# EAGLE library part 74HCT04PW-Q100,118 (library SamacSys_Parts)
74HC(T)04-Q100 - Hex inverter@en-us Source: Datasheet <https://assets.nexperia.com/documents/data-sheet/74HC_HCT04_Q100.pdf>
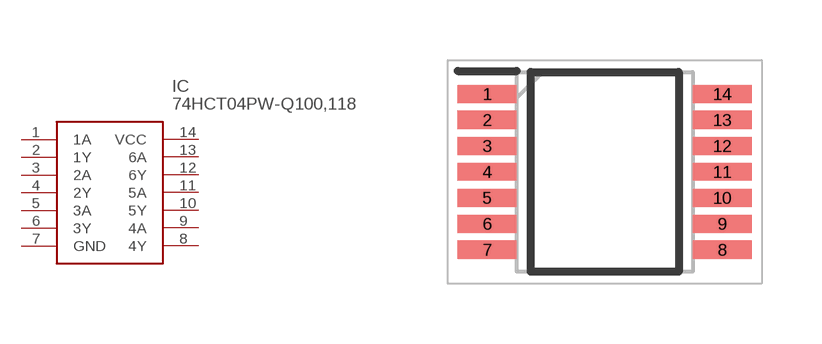
[diagram p58: symbol with the pads of SOP65P640X110-14N; footprint SOP65P640X110-14N]

Designator prefix IC

## 74HCT04PW-Q100,118 (DESCRIPTION: 74HC(T)04-Q100 - Hex inverter@en-us; HEIGHT: 1.1mm; MANUFACTURER_NAME: Nexperia; MANUFACTURER_PART_NUMBER: 74HCT04PW-Q100,118; MOUSER_PART_NUMBER: 771-74HCT04PWQ100118; MOUSER_PRICE-STOCK: https://www.mouser.co.uk/ProductDetail/Nexperia/74HCT04PW-Q100118?qs=1sbE9T7hb3YvWTJTrMU3Bw%3D%3D)  [SOP65P640X110-14N]
1  1A
2  1Y
3  2A
4  2Y
5  3A
6  3Y
7  GND
8  4Y
9  4A
10  5Y
11  5A
12  6Y
13  6A
14  VCC

## Footprint SOP65P640X110-14N (pad centres in mm)
SOT402-1
smd 1.475 x 0.45: 1 -2.938,1.95; 2 -2.938,1.3; 3 -2.938,0.65; 4 -2.938,0; 5 -2.938,-0.65; 6 -2.938,-1.3; 7 -2.938,-1.95; 8 2.938,-1.95; 9 2.938,-1.3; 10 2.938,-0.65; 11 2.938,0; 12 2.938,0.65; 13 2.938,1.3; 14 2.938,1.95